# Altium schematic symbol library Header 1x2.SchLib: 1 symbol
Pins are listed as number, name and electrical type; pins without a type are passive.

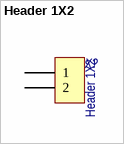
[diagram p0: symbol Header 1X2]

## Header 1X2
designator X?
Header, 2-Pin, Single row; Потребление, Вт: 0,0; Назначение: Header, 2-Pin, Single row; Наименование: Header 1X2
footprint PLD2-2
footprint JST-B2B-XH-A (JST 2 pin 2.5mm Header)
pins: 1, 2